# Altium footprint library Crystals.PcbLib: 3 footprints
Each footprint in its own frame and in the unit in brackets; x right, y up, seen from the top. Pads: shape width x height; smd on the part's side, far side on the other; paste and mask are expansions set on the pad; w line width, h text height; cw(c..) or ccw(c..) is an arc to the next point about the centre after c.
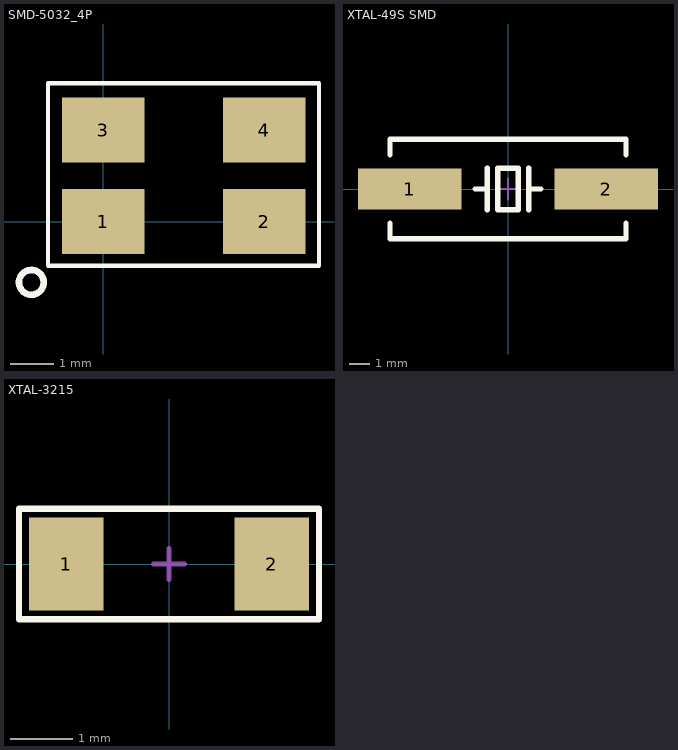
[diagram p0: the footprints below, top view; thin cyan lines are the x and y axes]

## SMD-5032_4P [mm] "3D模型只是个大概"
pads (4):
  rect 1.9x1.5 smd: 1(0,0) 2(3.696,0) 3(0,2.1) 4(3.696,2.1)
Top Overlay:
  circle w0.152: c-1.651,-1.397 r0.284
  lines w0.1: -1.27,-1.016 -1.27,3.175 -1.143,3.175 4.953,3.175 4.953,-1.016 -1.27,-1.016
3D body: height 1.3, standoff 0, extent -0.595,-0.457 4.405,2.743

## XTAL-49S SMD [mm]
pads (2):
  rect 5x2 smd: 1(-4.75,0) 2(4.75,0)
Top Overlay:
  lines w0.254: -5.7,-1.65 -5.7,-2.4 5.7,-2.4 5.7,-1.65 ; -5.7,1.65 -5.7,2.4 5.7,2.4 5.7,1.65 ; -1.6,0 -1,0 ; -1,-1 -1,1 ; 1,-1 1,1 ; 1,0 1.6,0 ; -0.5,-1 0.5,-1 0.5,1 -0.5,1 -0.5,-1
Mechanical 15:
  lines w0.076: -0.508,0 0.508,0 ; 0,-0.508 0,0.508
3D body: height 4, standoff 0, extent -6.7,-2.462 6.7,2.438

## XTAL-3215 [mm]
pads (2):
  rect 1.2x1.5 smd: 1(-1.65,0) 2(1.65,0)
Top Overlay:
  lines w0.1: -2.413,-0.889 2.413,-0.889 2.413,0.889 -2.413,0.889 -2.413,-0.889
Mechanical 15:
  lines w0.076: -0.254,0 0.254,0 ; 0,-0.254 0,0.254
3D body: height 0.81, standoff 0, extent -1.6,-0.75 1.6,0.75